# Altium schematic symbol library stoplight.SchLib: 1 symbol
Pins are listed as number, name and electrical type; pins without a type are passive.

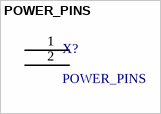
[diagram p0: symbol POWER_PINS]

## POWER_PINS
designator X?
On board power pins
footprint POWER_PINS
pins: 1 A, 2 B